# EAGLE library part LTM4605 (library linear)
Linear LTM4605 High Efficiency Buck-Boost DC/DC µModule Regulator Datasheet <https://cds.linear.com/docs/en/datasheet/4605fd.pdf> 4-5-20V in, 0.8-16V out, 5A boost, 12A buck
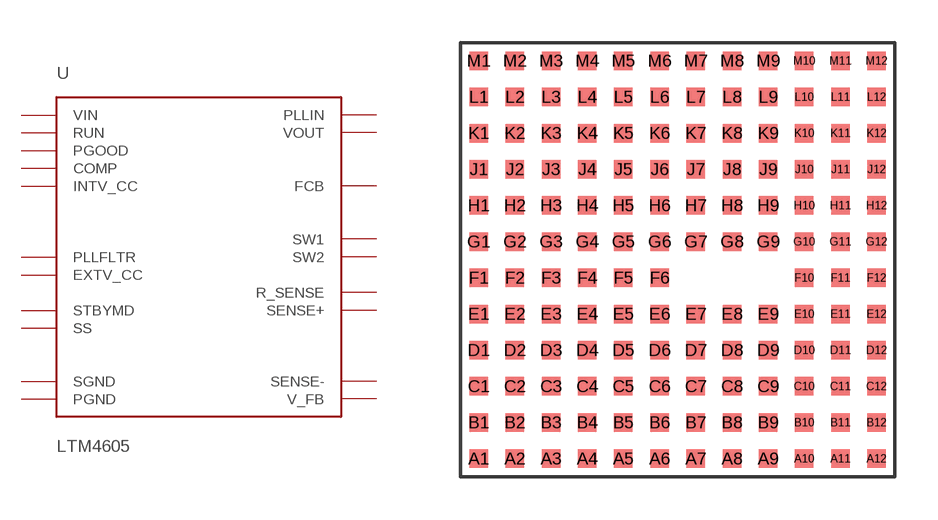
[diagram p319: symbol with the pads of LGA-141; footprint LGA-141]

Designator prefix -

## LTM4605  [LGA-141]
A1  PGND
A2  PGND
A3  PGND
A4  SENSE+
A5  SENSE-
A6  SS
A7  SGND
A8  RUN
A9  FCB
A10  STBYMD
A11  PGND
A12  PGND
B1  PGND
B2  PGND
B3  PGND
B4  PGND
B5  PGOOD
B6  V_FB
B7  COMP
B8  PLLFLTR
B9  PLLIN
B10  PGND
B11  PGND
B12  PGND
C1  PGND
C2  PGND
C3  PGND
C4  PGND
C5  PGND
C6  PGND
C7  PGND
C8  PGND
C9  PGND
C10  PGND
C11  PGND
C12  PGND
D1  PGND
D2  PGND
D3  PGND
D4  PGND
D5  PGND
D6  PGND
D7  PGND
D8  PGND
D9  PGND
D10  PGND
D11  PGND
D12  PGND
E1  VOUT
E2  VOUT
E3  PGND
E4  PGND
E5  PGND
E6  PGND
E7  PGND
E8  PGND
E9  PGND
E10  PGND
E11  PGND
E12  PGND
F1  VOUT
F2  VOUT
F3  VOUT
F4  VOUT
F5  INTV_CC
F6  EXTV_CC
F10  R_SENSE
F11  R_SENSE
F12  R_SENSE
G1  VOUT
G2  VOUT
G3  VOUT
G4  VOUT
G5  R_SENSE
G6  R_SENSE
G7  R_SENSE
G8  R_SENSE
G9  R_SENSE
G10  R_SENSE
G11  R_SENSE
G12  R_SENSE
H1  VOUT
H2  VOUT
H3  VOUT
H4  VOUT
H5  R_SENSE
H6  R_SENSE
H7  R_SENSE
H8  R_SENSE
H9  R_SENSE
H10  R_SENSE
H11  R_SENSE
H12  R_SENSE
J1  SW1
J2  SW1
J3  SW1
J4  SW1
J5  R_SENSE
J6  R_SENSE
J7  R_SENSE
J8  SW2
J9  SW2
J10  VIN
J11  VIN
J12  VIN
K1  SW1
K2  SW1
K3  SW1
K4  SW1
K5  R_SENSE
K6  R_SENSE
K7  SW2
K8  SW2
K9  SW2
K10  VIN
K11  VIN
K12  VIN
L1  SW1
L2  SW1
L3  SW1
L4  SW1
L5  R_SENSE
L6  R_SENSE
L7  SW2
L8  SW2
L9  SW2
L10  VIN
L11  VIN
L12  VIN
M1  SW1
M2  SW1
M3  SW1
M4  SW1
M5  R_SENSE
M6  R_SENSE
M7  SW2
M8  SW2
M9  SW2
M10  VIN
M11  VIN
M12  VIN

## Footprint LGA-141 (pad centres in mm)
smd 0.65 x 0.65: A1 -6.985,-6.985; A2 -5.715,-6.985; A3 -4.445,-6.985; A4 -3.175,-6.985; A5 -1.905,-6.985; A6 -0.635,-6.985; A7 0.635,-6.985; A8 1.905,-6.985; A9 3.175,-6.985; A10 4.445,-6.985; A11 5.715,-6.985; A12 6.985,-6.985; B1 -6.985,-5.715; B2 -5.715,-5.715; B3 -4.445,-5.715; B4 -3.175,-5.715; B5 -1.905,-5.715; B6 -0.635,-5.715; B7 0.635,-5.715; B8 1.905,-5.715; B9 3.175,-5.715; B10 4.445,-5.715; B11 5.715,-5.715; B12 6.985,-5.715; C1 -6.985,-4.445; C2 -5.715,-4.445; C3 -4.445,-4.445; C4 -3.175,-4.445; C5 -1.905,-4.445; C6 -0.635,-4.445; C7 0.635,-4.445; C8 1.905,-4.445; C9 3.175,-4.445; C10 4.445,-4.445; C11 5.715,-4.445; C12 6.985,-4.445; D1 -6.985,-3.175; D2 -5.715,-3.175; D3 -4.445,-3.175; D4 -3.175,-3.175; D5 -1.905,-3.175; D6 -0.635,-3.175; D7 0.635,-3.175; D8 1.905,-3.175; D9 3.175,-3.175; D10 4.445,-3.175; D11 5.715,-3.175; D12 6.985,-3.175; E1 -6.985,-1.905; E2 -5.715,-1.905; E3 -4.445,-1.905; E4 -3.175,-1.905; E5 -1.905,-1.905; E6 -0.635,-1.905; E7 0.635,-1.905; E8 1.905,-1.905; E9 3.175,-1.905; E10 4.445,-1.905; E11 5.715,-1.905; E12 6.985,-1.905; F1 -6.985,-0.635; F2 -5.715,-0.635; F3 -4.445,-0.635; F4 -3.175,-0.635; F5 -1.905,-0.635; F6 -0.635,-0.635; F10 4.445,-0.635; F11 5.715,-0.635; F12 6.985,-0.635; G1 -6.985,0.635; G2 -5.715,0.635; G3 -4.445,0.635; G4 -3.175,0.635; G5 -1.905,0.635; G6 -0.635,0.635; G7 0.635,0.635; G8 1.905,0.635; G9 3.175,0.635; G10 4.445,0.635; G11 5.715,0.635; G12 6.985,0.635; H1 -6.985,1.905; H2 -5.715,1.905; H3 -4.445,1.905; H4 -3.175,1.905; H5 -1.905,1.905; H6 -0.635,1.905; H7 0.635,1.905; H8 1.905,1.905; H9 3.175,1.905; H10 4.445,1.905; H11 5.715,1.905; H12 6.985,1.905; J1 -6.985,3.175; J2 -5.715,3.175; J3 -4.445,3.175; J4 -3.175,3.175; J5 -1.905,3.175; J6 -0.635,3.175; J7 0.635,3.175; J8 1.905,3.175; J9 3.175,3.175; J10 4.445,3.175; J11 5.715,3.175; J12 6.985,3.175; K1 -6.985,4.445; K2 -5.715,4.445; K3 -4.445,4.445; K4 -3.175,4.445; K5 -1.905,4.445; K6 -0.635,4.445; K7 0.635,4.445; K8 1.905,4.445; K9 3.175,4.445; K10 4.445,4.445; K11 5.715,4.445; K12 6.985,4.445; L1 -6.985,5.715; L2 -5.715,5.715; L3 -4.445,5.715; L4 -3.175,5.715; L5 -1.905,5.715; L6 -0.635,5.715; L7 0.635,5.715; L8 1.905,5.715; L9 3.175,5.715; L10 4.445,5.715; L11 5.715,5.715; L12 6.985,5.715; M1 -6.985,6.985; M2 -5.715,6.985; M3 -4.445,6.985; M4 -3.175,6.985; M5 -1.905,6.985; M6 -0.635,6.985; M7 0.635,6.985; M8 1.905,6.985; M9 3.175,6.985; M10 4.445,6.985; M11 5.715,6.985; M12 6.985,6.985